# Altium footprint library SMC(DO-214AB)_S3.PcbLib: 1 footprints
Each footprint in its own frame and in the unit in brackets; x right, y up, seen from the top. Pads: shape width x height; smd on the part's side, far side on the other; paste and mask are expansions set on the pad; w line width, h text height; cw(c..) or ccw(c..) is an arc to the next point about the centre after c.
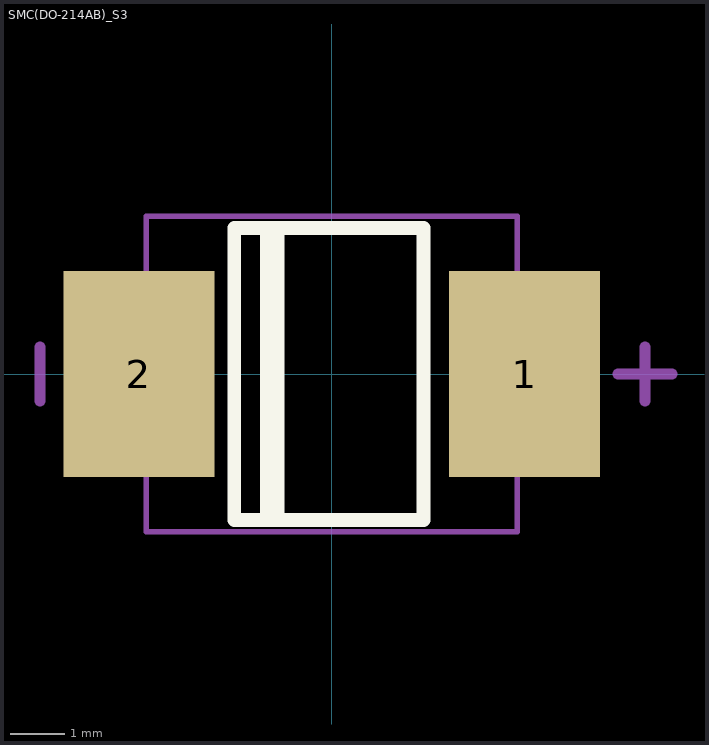
[diagram p0: the footprint, top view; thin cyan lines are the x and y axes]

## SMC(DO-214AB)_S3 [mil]
pads (2):
  rect 110x150 smd: 1(140.49,0) 2(-140.49,0)
Top Overlay:
  lines w10: -47.24,-106.3 -47.24,106.3 ; -39.37,-106.3 -39.37,106.3 ; -70.87,-106.3 66.93,-106.3 66.93,106.3 -70.87,106.3 -70.87,-106.3
Mechanical 13:
  lines w3.94: -135.04,-114.96 -135.04,114.96 135.04,114.96 135.04,-114.96 -135.04,-114.96
Mechanical 15:
  lines w8: -212.6,-19.68 -212.6,19.68 ; 208.66,0 248.03,0 ; 228.35,-19.68 228.35,19.68